# Altium schematic symbol library PTN78020W.SchLib: 2 symbols
Pins are listed as number, name and electrical type; pins without a type are passive.

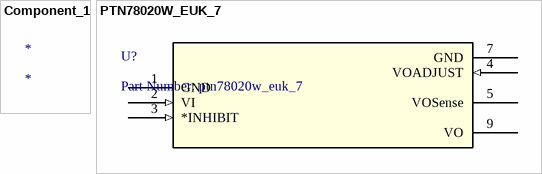
[diagram p0: symbols Component_1 to PTN78020W_EUK_7]

## Component_1
designator *

## PTN78020W_EUK_7
designator U?, comment Part Number: ptn78020w_euk_7
6-A Wide-Input Voltage Adjustable Switching Regulator; Manufacturer: Texas Instruments; INDUSTRY_STD_PKG_TYPE: Through-Hole Module; FAMILY_NAME: NON-ISOLATED POL; PIN_COUNT: 7; PACKAGE_DESIGNATOR: EUK; Datasheet_URL: http://www.ti.com/lit/gpn/PTN78020W; GENERIC_PART_NUMBER: PTN78020W; Vendor: Texas Instruments; Manufacturer_Part_Number: ptn78020w_euk_7; Copyright: Copyright (C) 2018 Accelerated Designs. All rights reserved; RefDes: RefDes; Type: DEV; Value: Value
footprint EUK7
pins: 1 GND (power), 2 VI (in), 3 *INHIBIT (in), 4 VOADJUST (in), 5 VOSense, 7 GND (power), 9 VO